# Altium integrated library NSC ADC.IntLib: 493 symbols (part 11 of 17)
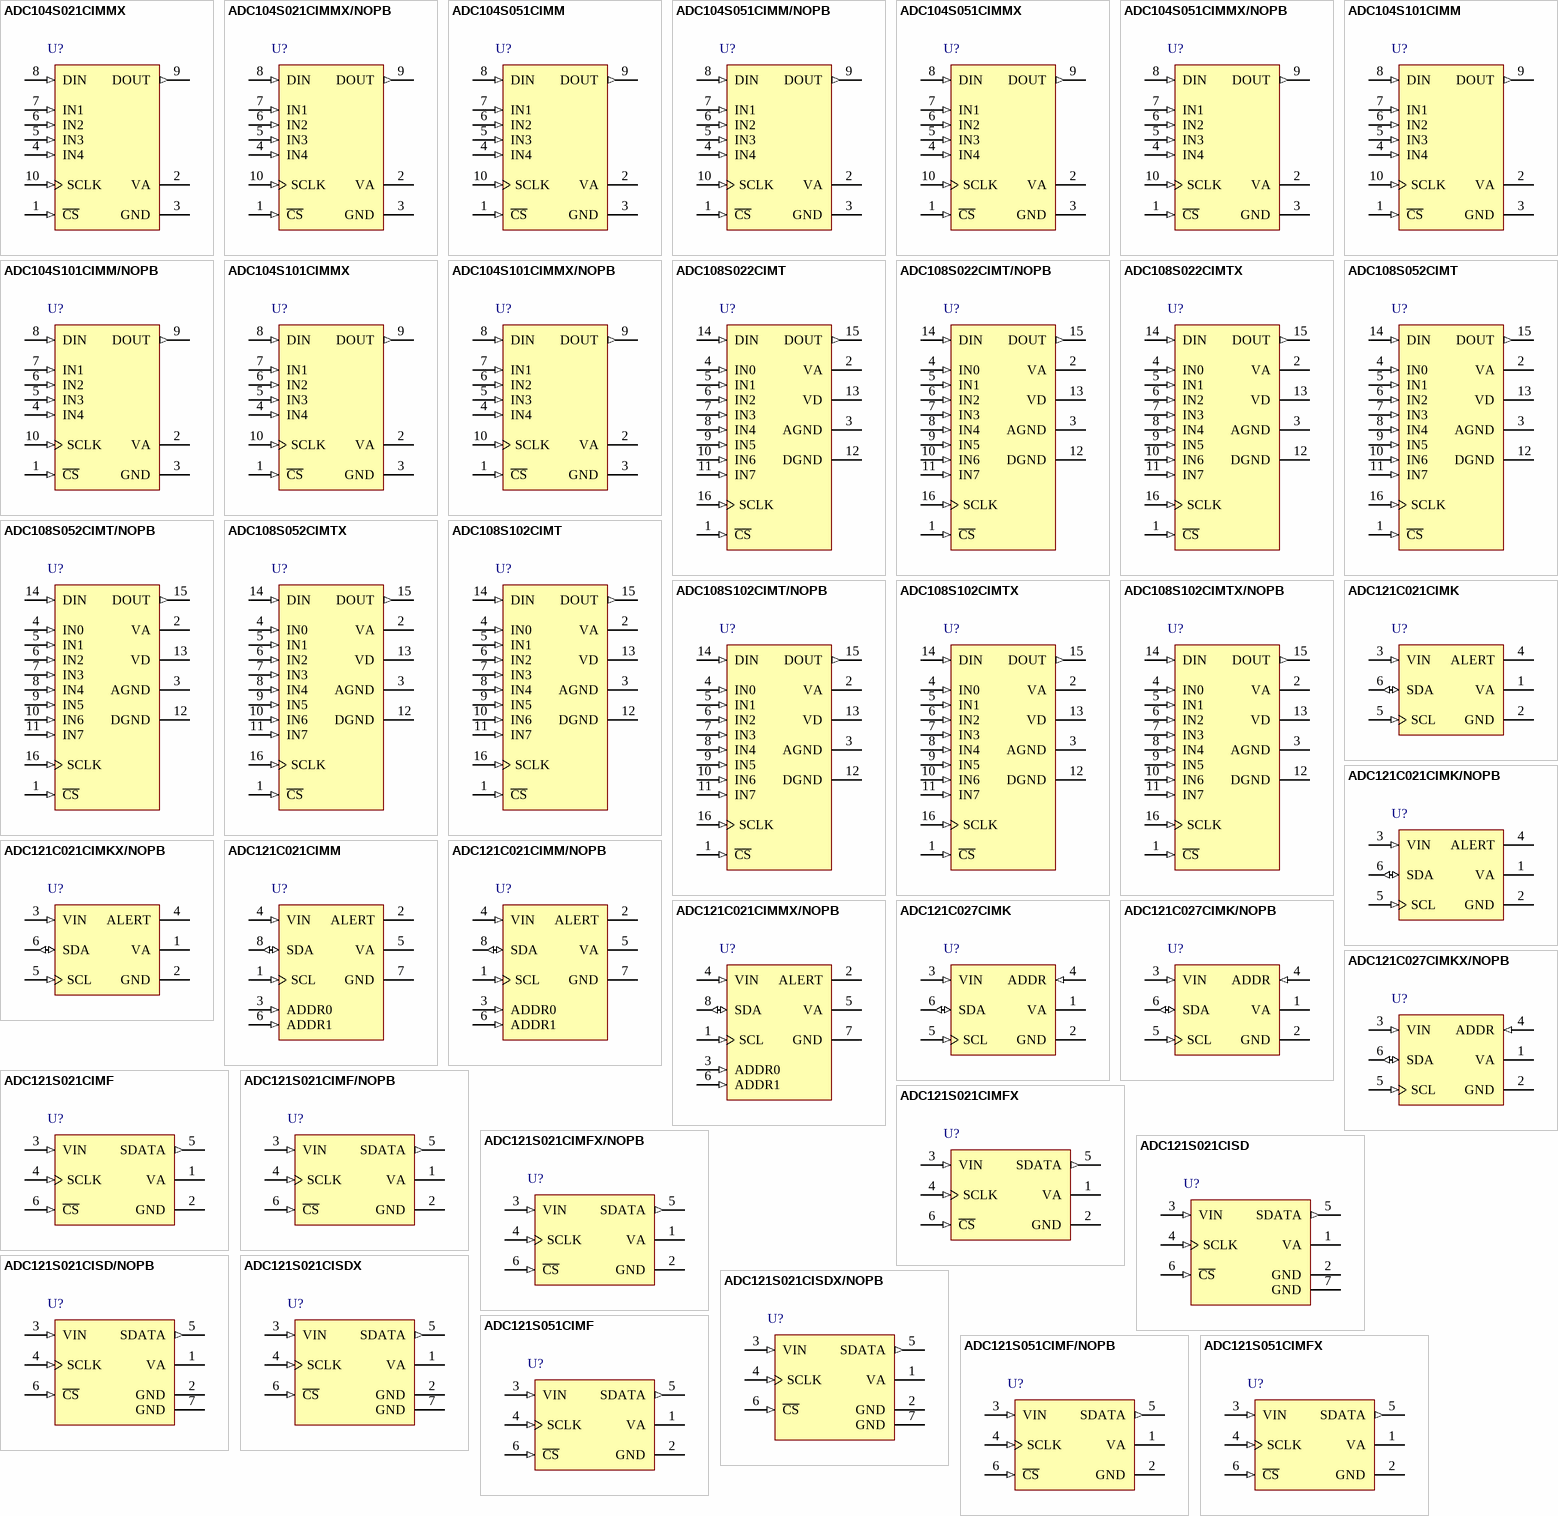
[diagram p46: symbols ADC104S021CIMMX to ADC121S051CIMFX]

## ADC121C021CIMKX/NOPB
designator U?
I2C-Compatible, 12-Bit Analog-to-Digital Converter with Alert Pin, 6-pin Tiny SOT23, Pb-Free; PartNumber: ADC121C021CIMKX/NOPB; Manufacturer: National Semiconductor; PackageTopMarking: X30C*XTT; PowerWise: Y; CompType: ADC IC; Published: 1-Mar-2010; DatasheetVersion: Jan-2008; PackageVersion: revE, Nov-2008; PackageReference: MK06A; Publisher: Altium Limited; PackageDescription: Molded TSOT, 2.97 x 1.65 x 0.87mm Body, 6 Lead, 0.95mm Pitch; Supplier 1: Digi-Key; Supplier Part Number 1: ADC121C021CIMKX-ND; RoHS: Y; PinCount: 6; Code_JEDEC: MO-193-AA; Code_IPC: SOT26A-6; ComponentLink1Description: ADC121C021 Datasheet; ComponentLink1URL: http://www.national.com/ds/AD/ADC121C021.pdf; ComponentLink2Description: ADC121C021 Web Page; ComponentLink2URL: http://www.national.com/pf/AD/ADC121C021.html; ComponentLink3Description: MK06A Package Page; ComponentLink3URL: http://www.national.com/packaging/folders/mk06a.html
footprint MK06A_N (SOT23, 6-Leads, Body 3.0x1.7mm, Pitch 0.95mm, Lead Span 2.9mm, IPC Medium Density)
footprint MK06A_L (SOT23, 6-Leads, Body 3.0x1.7mm, Pitch 0.95mm, Lead Span 2.9mm, IPC High Density)
footprint MK06A_M (SOT23, 6-Leads, Body 3.0x1.7mm, Pitch 0.95mm, Lead Span 2.9mm, IPC Low Density)
pins: 1 VA (power), 2 GND (power), 3 VIN (in), 4 ALERT (oc), 5 SCL (in), 6 SDA (io)

## ADC121C021CIMM
designator U?
I2C-Compatible, 12-Bit Analog-to-Digital Converter with Alert Pin, 8-pin Mini SOIC; PartNumber: ADC121C021CIMM; Manufacturer: National Semiconductor; PackageTopMarking: ZXTT*X37C; PowerWise: Y; CompType: ADC IC; Published: 29-May-2009; DatasheetVersion: Apr-2009; PackageVersion: revF, Apr-2008; PackageReference: MUA08A; Publisher: Altium Limited; PackageDescription: MINI SOIC, .118 x .118 x .034in, 8 Lead, .0256in Pitch; RoHS: Y; PinCount: 8; Code_JEDEC: MO-187-AA; ComponentLink1Description: ADC121C021 Datasheet; ComponentLink1URL: http://www.national.com/ds/AD/ADC121C021.pdf; ComponentLink2Description: ADC121C021 Web Page; ComponentLink2URL: http://www.national.com/pf/AD/ADC121C021.html; ComponentLink3Description: MUA08A Package Page; ComponentLink3URL: http://www.national.com/packaging/folders/mua08a.html
footprint MUA08A_N (TSOP, 8-Leads, Body 3x3mm, Pitch 0.65mm, IPC Medium Density)
footprint MUA08A_L (TSOP, 8-Leads, Body 3x3mm, Pitch 0.65mm, IPC High Density)
footprint MUA08A_M (TSOP, 8-Leads, Body 3x3mm, Pitch 0.65mm, IPC Low Density)
pins: 1 SCL (in), 2 ALERT (oc), 3 ADDR0 (in), 4 VIN (in), 5 VA (power), 6 ADDR1 (in), 7 GND (power), 8 SDA (io)

## ADC121C021CIMM/NOPB
designator U?
I2C-Compatible, 12-Bit Analog-to-Digital Converter with Alert Pin, 8-pin Mini SOIC, Pb-Free; PartNumber: ADC121C021CIMM/NOPB; Manufacturer: National Semiconductor; PackageTopMarking: ZXTT*X37C; PowerWise: Y; CompType: ADC IC; Published: 1-Mar-2010; DatasheetVersion: Apr-2009; PackageVersion: revF, Apr-2008; PackageReference: MUA08A; Publisher: Altium Limited; PackageDescription: MINI SOIC, .118 x .118 x .034in, 8 Lead, .0256in Pitch; Supplier 1: Digi-Key; Supplier Part Number 1: ADC121C021CIMMTR-ND; Supplier 2: Digi-Key; Supplier Part Number 2: ADC121C021CIMMCT-ND; Supplier 3: Digi-Key; Supplier Part Number 3: ADC121C021CIMMDKR-ND; Supplier 4: Farnell; Supplier Part Number 4: 1735789; RoHS: Y; PinCount: 8; Code_JEDEC: MO-187-AA; ComponentLink1Description: ADC121C021 Datasheet; ComponentLink1URL: http://www.national.com/ds/AD/ADC121C021.pdf; ComponentLink2Description: ADC121C021 Web Page; ComponentLink2URL: http://www.national.com/pf/AD/ADC121C021.html; ComponentLink3Description: MUA08A Package Page; ComponentLink3URL: http://www.national.com/packaging/folders/mua08a.html
footprint MUA08A_N (TSOP, 8-Leads, Body 3x3mm, Pitch 0.65mm, IPC Medium Density)
footprint MUA08A_L (TSOP, 8-Leads, Body 3x3mm, Pitch 0.65mm, IPC High Density)
footprint MUA08A_M (TSOP, 8-Leads, Body 3x3mm, Pitch 0.65mm, IPC Low Density)
pins: 1 SCL (in), 2 ALERT (oc), 3 ADDR0 (in), 4 VIN (in), 5 VA (power), 6 ADDR1 (in), 7 GND (power), 8 SDA (io)

## ADC121C021CIMMX/NOPB
designator U?
I2C-Compatible, 12-Bit Analog-to-Digital Converter with Alert Pin, 8-pin Mini SOIC, Pb-Free; PartNumber: ADC121C021CIMMX/NOPB; Manufacturer: National Semiconductor; PackageTopMarking: ZXTT*X37C; PowerWise: Y; CompType: ADC IC; Published: 1-Mar-2010; DatasheetVersion: Apr-2009; PackageVersion: revF, Apr-2008; PackageReference: MUA08A; Publisher: Altium Limited; PackageDescription: MINI SOIC, .118 x .118 x .034in, 8 Lead, .0256in Pitch; Supplier 1: Digi-Key; Supplier Part Number 1: ADC121C021CIMMX-ND; RoHS: Y; PinCount: 8; Code_JEDEC: MO-187-AA; ComponentLink1Description: ADC121C021 Datasheet; ComponentLink1URL: http://www.national.com/ds/AD/ADC121C021.pdf; ComponentLink2Description: ADC121C021 Web Page; ComponentLink2URL: http://www.national.com/pf/AD/ADC121C021.html; ComponentLink3Description: MUA08A Package Page; ComponentLink3URL: http://www.national.com/packaging/folders/mua08a.html
footprint MUA08A_N (TSOP, 8-Leads, Body 3x3mm, Pitch 0.65mm, IPC Medium Density)
footprint MUA08A_L (TSOP, 8-Leads, Body 3x3mm, Pitch 0.65mm, IPC High Density)
footprint MUA08A_M (TSOP, 8-Leads, Body 3x3mm, Pitch 0.65mm, IPC Low Density)
pins: 1 SCL (in), 2 ALERT (oc), 3 ADDR0 (in), 4 VIN (in), 5 VA (power), 6 ADDR1 (in), 7 GND (power), 8 SDA (io)

## ADC121C027CIMK
designator U?
I2C-Compatible, 12-Bit Analog-to-Digital Converter with Alert Function, 6-pin Tiny SOT23; PartNumber: ADC121C027CIMK; Manufacturer: National Semiconductor; PackageTopMarking: X31C*XTT; PowerWise: Y; CompType: ADC IC; Published: 29-May-2009; DatasheetVersion: Apr-2009; PackageVersion: revE, Nov-2008; PackageReference: MK06A; Publisher: Altium Limited; PackageDescription: Molded TSOT, 2.97 x 1.65 x 0.87mm Body, 6 Lead, 0.95mm Pitch; Supplier 1: Farnell; Supplier Part Number 1: 1552431; RoHS: N; PinCount: 6; Code_JEDEC: MO-193-AA; Code_IPC: SOT26A-6; ComponentLink1Description: ADC121C027 Datasheet; ComponentLink1URL: http://www.national.com/ds/AD/ADC121C027.pdf; ComponentLink2Description: ADC121C027 Web Page; ComponentLink2URL: http://www.national.com/pf/AD/ADC121C027.html; ComponentLink3Description: MK06A Package Page; ComponentLink3URL: http://www.national.com/packaging/folders/mk06a.html
footprint MK06A_N (SOT23, 6-Leads, Body 3.0x1.7mm, Pitch 0.95mm, Lead Span 2.9mm, IPC Medium Density)
footprint MK06A_L (SOT23, 6-Leads, Body 3.0x1.7mm, Pitch 0.95mm, Lead Span 2.9mm, IPC High Density)
footprint MK06A_M (SOT23, 6-Leads, Body 3.0x1.7mm, Pitch 0.95mm, Lead Span 2.9mm, IPC Low Density)
pins: 1 VA (power), 2 GND (power), 3 VIN (in), 4 ADDR (in), 5 SCL (in), 6 SDA (io)

## ADC121C027CIMK/NOPB
designator U?
I2C-Compatible, 12-Bit Analog-to-Digital Converter with Alert Function, 6-pin Tiny SOT23, Pb-Free; PartNumber: ADC121C027CIMK/NOPB; Manufacturer: National Semiconductor; PackageTopMarking: X31C*XTT; PowerWise: Y; CompType: ADC IC; Published: 1-Mar-2010; DatasheetVersion: Apr-2009; PackageVersion: revE, Nov-2008; PackageReference: MK06A; Publisher: Altium Limited; PackageDescription: Molded TSOT, 2.97 x 1.65 x 0.87mm Body, 6 Lead, 0.95mm Pitch; Supplier 1: Digi-Key; Supplier Part Number 1: ADC121C027CIMKTR-ND; Supplier 2: Digi-Key; Supplier Part Number 2: ADC121C027CIMKCT-ND; Supplier 3: Digi-Key; Supplier Part Number 3: ADC121C027CIMKDKR-ND; Supplier 4: Farnell; Supplier Part Number 4: 1555087; RoHS: Y; PinCount: 6; Code_JEDEC: MO-193-AA; Code_IPC: SOT26A-6; ComponentLink1Description: ADC121C027 Datasheet; ComponentLink1URL: http://www.national.com/ds/AD/ADC121C027.pdf; ComponentLink2Description: ADC121C027 Web Page; ComponentLink2URL: http://www.national.com/pf/AD/ADC121C027.html; ComponentLink3Description: MK06A Package Page; ComponentLink3URL: http://www.national.com/packaging/folders/mk06a.html
footprint MK06A_N (SOT23, 6-Leads, Body 3.0x1.7mm, Pitch 0.95mm, Lead Span 2.9mm, IPC Medium Density)
footprint MK06A_L (SOT23, 6-Leads, Body 3.0x1.7mm, Pitch 0.95mm, Lead Span 2.9mm, IPC High Density)
footprint MK06A_M (SOT23, 6-Leads, Body 3.0x1.7mm, Pitch 0.95mm, Lead Span 2.9mm, IPC Low Density)
pins: 1 VA (power), 2 GND (power), 3 VIN (in), 4 ADDR (in), 5 SCL (in), 6 SDA (io)

## ADC121C027CIMKX/NOPB
designator U?
I2C-Compatible, 12-Bit Analog-to-Digital Converter with Alert Function, 6-pin Tiny SOT23, Pb-Free; PartNumber: ADC121C027CIMKX/NOPB; Manufacturer: National Semiconductor; PackageTopMarking: X31C*XTT; PowerWise: Y; CompType: ADC IC; Published: 1-Mar-2010; DatasheetVersion: Apr-2009; PackageVersion: revE, Nov-2008; PackageReference: MK06A; Publisher: Altium Limited; PackageDescription: Molded TSOT, 2.97 x 1.65 x 0.87mm Body, 6 Lead, 0.95mm Pitch; Supplier 1: Digi-Key; Supplier Part Number 1: ADC121C027CIMKX-ND; RoHS: Y; PinCount: 6; Code_JEDEC: MO-193-AA; Code_IPC: SOT26A-6; ComponentLink1Description: ADC121C027 Datasheet; ComponentLink1URL: http://www.national.com/ds/AD/ADC121C027.pdf; ComponentLink2Description: ADC121C027 Web Page; ComponentLink2URL: http://www.national.com/pf/AD/ADC121C027.html; ComponentLink3Description: MK06A Package Page; ComponentLink3URL: http://www.national.com/packaging/folders/mk06a.html
footprint MK06A_N (SOT23, 6-Leads, Body 3.0x1.7mm, Pitch 0.95mm, Lead Span 2.9mm, IPC Medium Density)
footprint MK06A_L (SOT23, 6-Leads, Body 3.0x1.7mm, Pitch 0.95mm, Lead Span 2.9mm, IPC High Density)
footprint MK06A_M (SOT23, 6-Leads, Body 3.0x1.7mm, Pitch 0.95mm, Lead Span 2.9mm, IPC Low Density)
pins: 1 VA (power), 2 GND (power), 3 VIN (in), 4 ADDR (in), 5 SCL (in), 6 SDA (io)

## ADC121S021CIMF
designator U?
Single Channel, 50 to 200 kSPS, 12-Bit A/D Converter, 6-pin SOT-23; PartNumber: ADC121S021CIMF; Manufacturer: National Semiconductor; PackageTopMarking: X07C*XTT; PowerWise: Y; CompType: ADC IC; Published: 4-Dec-2008; DatasheetVersion: Jan-2010; PackageVersion: revC, Sep-2005; PackageReference: MF06A; Publisher: Altium Limited; PackageDescription: Molded SOT-23, .115 x .063 x .040in Body, 6 Lead, .0375in in Pitch; Supplier 1: Farnell; Supplier Part Number 1: 1250025; RoHS: N; PinCount: 6; Code_JEDEC: MO-178-AB; Code_IPC: SOT26A-6; ComponentLink1Description: ADC121S021 Datasheet; ComponentLink1URL: http://www.national.com/ds/AD/ADC121S021.pdf; ComponentLink2Description: ADC121S021 Web Page; ComponentLink2URL: http://www.national.com/pf/AD/ADC121S021.html; ComponentLink3Description: MF06A Package Page; ComponentLink3URL: http://www.national.com/packaging/folders/mf06a.html
footprint MF06A_N (SOT23, 6-Leads, Body 2.9x1.6mm, Pitch 0.95mm, Lead Span 2.8mm, IPC Medium Density)
footprint MF06A_L (SOT23, 6-Leads, Body 2.9x1.6mm, Pitch 0.95mm, Lead Span 2.8mm, IPC High Density)
footprint MF06A_M (SOT23, 6-Leads, Body 2.9x1.6mm, Pitch 0.95mm, Lead Span 2.8mm, IPC Low Density)
pins: 1 VA (power), 2 GND (power), 3 VIN (in), 4 SCLK (in), 5 SDATA (out), 6 ~{CS} (in)

## ADC121S021CIMF/NOPB
designator U?
Single Channel, 50 to 200 kSPS, 12-Bit A/D Converter, 6-pin SOT-23, Pb-Free; PartNumber: ADC121S021CIMF/NOPB; Manufacturer: National Semiconductor; PackageTopMarking: X07C*XTT; PowerWise: Y; CompType: ADC IC; Published: 1-Mar-2010; DatasheetVersion: Jan-2010; PackageVersion: revC, Sep-2005; PackageReference: MF06A; Publisher: Altium Limited; PackageDescription: Molded SOT-23, .115 x .063 x .040in Body, 6 Lead, .0375in in Pitch; Supplier 1: Digi-Key; Supplier Part Number 1: ADC121S021CIMFTR-ND; Supplier 2: Digi-Key; Supplier Part Number 2: ADC121S021CIMFCT-ND; Supplier 3: Digi-Key; Supplier Part Number 3: ADC121S021CIMFDKR-ND; Supplier 4: Farnell; Supplier Part Number 4: 1511045; RoHS: Y; PinCount: 6; Code_JEDEC: MO-178-AB; Code_IPC: SOT26A-6; ComponentLink1Description: ADC121S021 Datasheet; ComponentLink1URL: http://www.national.com/ds/AD/ADC121S021.pdf; ComponentLink2Description: ADC121S021 Web Page; ComponentLink2URL: http://www.national.com/pf/AD/ADC121S021.html; ComponentLink3Description: MF06A Package Page; ComponentLink3URL: http://www.national.com/packaging/folders/mf06a.html
footprint MF06A_N (SOT23, 6-Leads, Body 2.9x1.6mm, Pitch 0.95mm, Lead Span 2.8mm, IPC Medium Density)
footprint MF06A_L (SOT23, 6-Leads, Body 2.9x1.6mm, Pitch 0.95mm, Lead Span 2.8mm, IPC High Density)
footprint MF06A_M (SOT23, 6-Leads, Body 2.9x1.6mm, Pitch 0.95mm, Lead Span 2.8mm, IPC Low Density)
pins: 1 VA (power), 2 GND (power), 3 VIN (in), 4 SCLK (in), 5 SDATA (out), 6 ~{CS} (in)

## ADC121S021CIMFX
designator U?
Single Channel, 50 to 200 kSPS, 12-Bit A/D Converter, 6-pin SOT-23; PartNumber: ADC121S021CIMFX; Manufacturer: National Semiconductor; PackageTopMarking: X07C*XTT; PowerWise: Y; CompType: ADC IC; Published: 1-Mar-2010; DatasheetVersion: Jan-2010; PackageVersion: revC, Sep-2005; PackageReference: MF06A; Publisher: Altium Limited; PackageDescription: Molded SOT-23, .115 x .063 x .040in Body, 6 Lead, .0375in in Pitch; RoHS: N; PinCount: 6; Code_JEDEC: MO-178-AB; Code_IPC: SOT26A-6; ComponentLink1Description: ADC121S021 Datasheet; ComponentLink1URL: http://www.national.com/ds/AD/ADC121S021.pdf; ComponentLink2Description: ADC121S021 Web Page; ComponentLink2URL: http://www.national.com/pf/AD/ADC121S021.html; ComponentLink3Description: MF06A Package Page; ComponentLink3URL: http://www.national.com/packaging/folders/mf06a.html
footprint MF06A_N (SOT23, 6-Leads, Body 2.9x1.6mm, Pitch 0.95mm, Lead Span 2.8mm, IPC Medium Density)
footprint MF06A_L (SOT23, 6-Leads, Body 2.9x1.6mm, Pitch 0.95mm, Lead Span 2.8mm, IPC High Density)
footprint MF06A_M (SOT23, 6-Leads, Body 2.9x1.6mm, Pitch 0.95mm, Lead Span 2.8mm, IPC Low Density)
pins: 1 VA (power), 2 GND (power), 3 VIN (in), 4 SCLK (in), 5 SDATA (out), 6 ~{CS} (in)

## ADC121S021CIMFX/NOPB
designator U?
Single Channel, 50 to 200 kSPS, 12-Bit A/D Converter, 6-pin SOT-23, Pb-Free; PartNumber: ADC121S021CIMFX/NOPB; Manufacturer: National Semiconductor; PackageTopMarking: X07C*XTT; PowerWise: Y; CompType: ADC IC; Published: 1-Mar-2010; DatasheetVersion: Jan-2010; PackageVersion: revC, Sep-2005; PackageReference: MF06A; Publisher: Altium Limited; PackageDescription: Molded SOT-23, .115 x .063 x .040in Body, 6 Lead, .0375in in Pitch; Supplier 1: Digi-Key; Supplier Part Number 1: ADC121S021CIMFX-ND; RoHS: Y; PinCount: 6; Code_JEDEC: MO-178-AB; Code_IPC: SOT26A-6; ComponentLink1Description: ADC121S021 Datasheet; ComponentLink1URL: http://www.national.com/ds/AD/ADC121S021.pdf; ComponentLink2Description: ADC121S021 Web Page; ComponentLink2URL: http://www.national.com/pf/AD/ADC121S021.html; ComponentLink3Description: MF06A Package Page; ComponentLink3URL: http://www.national.com/packaging/folders/mf06a.html
footprint MF06A_N (SOT23, 6-Leads, Body 2.9x1.6mm, Pitch 0.95mm, Lead Span 2.8mm, IPC Medium Density)
footprint MF06A_L (SOT23, 6-Leads, Body 2.9x1.6mm, Pitch 0.95mm, Lead Span 2.8mm, IPC High Density)
footprint MF06A_M (SOT23, 6-Leads, Body 2.9x1.6mm, Pitch 0.95mm, Lead Span 2.8mm, IPC Low Density)
pins: 1 VA (power), 2 GND (power), 3 VIN (in), 4 SCLK (in), 5 SDATA (out), 6 ~{CS} (in)

## ADC121S021CISD
designator U?
Single Channel, 50 to 200 kSPS, 12-Bit A/D Converter, 7-pin LLP; PartNumber: ADC121S021CISD; Manufacturer: National Semiconductor; PackageTopMarking: XTT*X7C; PowerWise: Y; CompType: ADC IC; Published: 4-Dec-2008; DatasheetVersion: Jan-2010; PackageVersion: revA, Nov-2003; PackageReference: SDB06A; Publisher: Altium Limited; PackageDescription: LLP, Plastic, Dual, 2.2 x 2.5 x 0.8mm Body, 6 Lead, 0.65mm Pitch, No Pullback; Supplier 1: Farnell; Supplier Part Number 1: 1312531; RoHS: N; PinCount: 6; ComponentLink1Description: ADC121S021 Datasheet; ComponentLink1URL: http://www.national.com/ds/AD/ADC121S021.pdf; ComponentLink2Description: ADC121S021 Web Page; ComponentLink2URL: http://www.national.com/pf/AD/ADC121S021.html; ComponentLink3Description: SDB06A Package Page; ComponentLink3URL: http://www.national.com/packaging/folders/sdb06a.html
footprint SDB06A (SON, 6-Leads, Body 2.2x2.5mm, Pitch 0.65mm, NSC Recommended (SC-70 Land))
pins: 1 VA (power), 2 GND (power), 3 VIN (in), 4 SCLK (in), 5 SDATA (out), 6 ~{CS} (in), 7 GND (power)

## ADC121S021CISD/NOPB
designator U?
Single Channel, 50 to 200 kSPS, 12-Bit A/D Converter, 6-pin LLP, Pb-Free; PartNumber: ADC121S021CISD/NOPB; Manufacturer: National Semiconductor; PackageTopMarking: XTT*X7C; PowerWise: Y; CompType: ADC IC; Published: 1-Mar-2010; DatasheetVersion: Jan-2010; PackageVersion: revA, Nov-2003; PackageReference: SDB06A; Publisher: Altium Limited; PackageDescription: LLP, Plastic, Dual, 2.2 x 2.5 x 0.8mm Body, 6 Lead, 0.65mm Pitch, No Pullback; Supplier 1: Digi-Key; Supplier Part Number 1: ADC121S021CISDTR-ND; Supplier 2: Digi-Key; Supplier Part Number 2: ADC121S021CISDCT-ND; Supplier 3: Digi-Key; Supplier Part Number 3: ADC121S021CISDDKR-ND; RoHS: Y; PinCount: 6; ComponentLink1Description: ADC121S021 Datasheet; ComponentLink1URL: http://www.national.com/ds/AD/ADC121S021.pdf; ComponentLink2Description: ADC121S021 Web Page; ComponentLink2URL: http://www.national.com/pf/AD/ADC121S021.html; ComponentLink3Description: SDB06A Package Page; ComponentLink3URL: http://www.national.com/packaging/folders/sdb06a.html
footprint SDB06A (SON, 6-Leads, Body 2.2x2.5mm, Pitch 0.65mm, NSC Recommended (SC-70 Land))
pins: 1 VA (power), 2 GND (power), 3 VIN (in), 4 SCLK (in), 5 SDATA (out), 6 ~{CS} (in), 7 GND (power)

## ADC121S021CISDX
designator U?
Single Channel, 50 to 200 kSPS, 12-Bit A/D Converter, 6-pin LLP; PartNumber: ADC121S021CISDX; Manufacturer: National Semiconductor; PackageTopMarking: XTT*X7C; PowerWise: Y; CompType: ADC IC; Published: 1-Mar-2010; DatasheetVersion: Jan-2010; PackageVersion: revA, Nov-2003; PackageReference: SDB06A; Publisher: Altium Limited; PackageDescription: LLP, Plastic, Dual, 2.2 x 2.5 x 0.8mm Body, 6 Lead, 0.65mm Pitch, No Pullback; RoHS: N; PinCount: 6; ComponentLink1Description: ADC121S021 Datasheet; ComponentLink1URL: http://www.national.com/ds/AD/ADC121S021.pdf; ComponentLink2Description: ADC121S021 Web Page; ComponentLink2URL: http://www.national.com/pf/AD/ADC121S021.html; ComponentLink3Description: SDB06A Package Page; ComponentLink3URL: http://www.national.com/packaging/folders/sdb06a.html
footprint SDB06A (SON, 6-Leads, Body 2.2x2.5mm, Pitch 0.65mm, NSC Recommended (SC-70 Land))
pins: 1 VA (power), 2 GND (power), 3 VIN (in), 4 SCLK (in), 5 SDATA (out), 6 ~{CS} (in), 7 GND (power)

## ADC121S021CISDX/NOPB
designator U?
Single Channel, 50 to 200 kSPS, 12-Bit A/D Converter, 6-pin LLP, Pb-Free; PartNumber: ADC121S021CISDX/NOPB; Manufacturer: National Semiconductor; PackageTopMarking: XTT*X7C; PowerWise: Y; CompType: ADC IC; Published: 1-Mar-2010; DatasheetVersion: Jan-2010; PackageVersion: revA, Nov-2003; PackageReference: SDB06A; Publisher: Altium Limited; PackageDescription: LLP, Plastic, Dual, 2.2 x 2.5 x 0.8mm Body, 6 Lead, 0.65mm Pitch, No Pullback; Supplier 1: Digi-Key; Supplier Part Number 1: ADC121S021CISDX-ND; RoHS: Y; PinCount: 6; ComponentLink1Description: ADC121S021 Datasheet; ComponentLink1URL: http://www.national.com/ds/AD/ADC121S021.pdf; ComponentLink2Description: ADC121S021 Web Page; ComponentLink2URL: http://www.national.com/pf/AD/ADC121S021.html; ComponentLink3Description: SDB06A Package Page; ComponentLink3URL: http://www.national.com/packaging/folders/sdb06a.html
footprint SDB06A (SON, 6-Leads, Body 2.2x2.5mm, Pitch 0.65mm, NSC Recommended (SC-70 Land))
pins: 1 VA (power), 2 GND (power), 3 VIN (in), 4 SCLK (in), 5 SDATA (out), 6 ~{CS} (in), 7 GND (power)

## ADC121S051CIMF
designator U?
Single Channel, 200 to 500 kSPS, 12-Bit A/D Converter, 6-pin SOT-23; PartNumber: ADC121S051CIMF; Manufacturer: National Semiconductor; PackageTopMarking: X13C*XTT; PowerWise: Y; CompType: ADC IC; Published: 4-Dec-2008; DatasheetVersion: Jan-2010; PackageVersion: revC, Sep-2005; PackageReference: MF06A; Publisher: Altium Limited; PackageDescription: Molded SOT-23, .115 x .063 x .040in Body, 6 Lead, .0375in in Pitch; Supplier 1: Farnell; Supplier Part Number 1: 1250027; RoHS: N; PinCount: 6; Code_JEDEC: MO-178-AB; Code_IPC: SOT26A-6; ComponentLink1Description: ADC121S051 Datasheet; ComponentLink1URL: http://www.national.com/ds/AD/ADC121S051.pdf; ComponentLink2Description: ADC121S051 Web Page; ComponentLink2URL: http://www.national.com/pf/AD/ADC121S051.html; ComponentLink3Description: MF06A Package Page; ComponentLink3URL: http://www.national.com/packaging/folders/mf06a.html
footprint MF06A_N (SOT23, 6-Leads, Body 2.9x1.6mm, Pitch 0.95mm, Lead Span 2.8mm, IPC Medium Density)
footprint MF06A_L (SOT23, 6-Leads, Body 2.9x1.6mm, Pitch 0.95mm, Lead Span 2.8mm, IPC High Density)
footprint MF06A_M (SOT23, 6-Leads, Body 2.9x1.6mm, Pitch 0.95mm, Lead Span 2.8mm, IPC Low Density)
pins: 1 VA (power), 2 GND (power), 3 VIN (in), 4 SCLK (in), 5 SDATA (out), 6 ~{CS} (in)

## ADC121S051CIMF/NOPB
designator U?
Single Channel, 200 to 500 kSPS, 12-Bit A/D Converter, 6-pin SOT-23, Pb-Free; PartNumber: ADC121S051CIMF/NOPB; Manufacturer: National Semiconductor; PackageTopMarking: X13C*XTT; PowerWise: Y; CompType: ADC IC; Published: 1-Mar-2010; DatasheetVersion: Jan-2010; PackageVersion: revC, Sep-2005; PackageReference: MF06A; Publisher: Altium Limited; PackageDescription: Molded SOT-23, .115 x .063 x .040in Body, 6 Lead, .0375in in Pitch; Supplier 1: Digi-Key; Supplier Part Number 1: ADC121S051CIMFTR-ND; Supplier 2: Digi-Key; Supplier Part Number 2: ADC121S051CIMFCT-ND; Supplier 3: Digi-Key; Supplier Part Number 3: ADC121S051CIMFDKR-ND; RoHS: Y; PinCount: 6; Code_JEDEC: MO-178-AB; Code_IPC: SOT26A-6; ComponentLink1Description: ADC121S051 Datasheet; ComponentLink1URL: http://www.national.com/ds/AD/ADC121S051.pdf; ComponentLink2Description: ADC121S051 Web Page; ComponentLink2URL: http://www.national.com/pf/AD/ADC121S051.html; ComponentLink3Description: MF06A Package Page; ComponentLink3URL: http://www.national.com/packaging/folders/mf06a.html
footprint MF06A_N (SOT23, 6-Leads, Body 2.9x1.6mm, Pitch 0.95mm, Lead Span 2.8mm, IPC Medium Density)
footprint MF06A_L (SOT23, 6-Leads, Body 2.9x1.6mm, Pitch 0.95mm, Lead Span 2.8mm, IPC High Density)
footprint MF06A_M (SOT23, 6-Leads, Body 2.9x1.6mm, Pitch 0.95mm, Lead Span 2.8mm, IPC Low Density)
pins: 1 VA (power), 2 GND (power), 3 VIN (in), 4 SCLK (in), 5 SDATA (out), 6 ~{CS} (in)

## ADC121S051CIMFX
designator U?
Single Channel, 200 to 500 kSPS, 12-Bit A/D Converter, 6-pin SOT-23; PartNumber: ADC121S051CIMFX; Manufacturer: National Semiconductor; PackageTopMarking: X13C*XTT; PowerWise: Y; CompType: ADC IC; Published: 1-Mar-2010; DatasheetVersion: Jan-2010; PackageVersion: revC, Sep-2005; PackageReference: MF06A; Publisher: Altium Limited; PackageDescription: Molded SOT-23, .115 x .063 x .040in Body, 6 Lead, .0375in in Pitch; RoHS: N; PinCount: 6; Code_JEDEC: MO-178-AB; Code_IPC: SOT26A-6; ComponentLink1Description: ADC121S051 Datasheet; ComponentLink1URL: http://www.national.com/ds/AD/ADC121S051.pdf; ComponentLink2Description: ADC121S051 Web Page; ComponentLink2URL: http://www.national.com/pf/AD/ADC121S051.html; ComponentLink3Description: MF06A Package Page; ComponentLink3URL: http://www.national.com/packaging/folders/mf06a.html
footprint MF06A_N (SOT23, 6-Leads, Body 2.9x1.6mm, Pitch 0.95mm, Lead Span 2.8mm, IPC Medium Density)
footprint MF06A_L (SOT23, 6-Leads, Body 2.9x1.6mm, Pitch 0.95mm, Lead Span 2.8mm, IPC High Density)
footprint MF06A_M (SOT23, 6-Leads, Body 2.9x1.6mm, Pitch 0.95mm, Lead Span 2.8mm, IPC Low Density)
pins: 1 VA (power), 2 GND (power), 3 VIN (in), 4 SCLK (in), 5 SDATA (out), 6 ~{CS} (in)

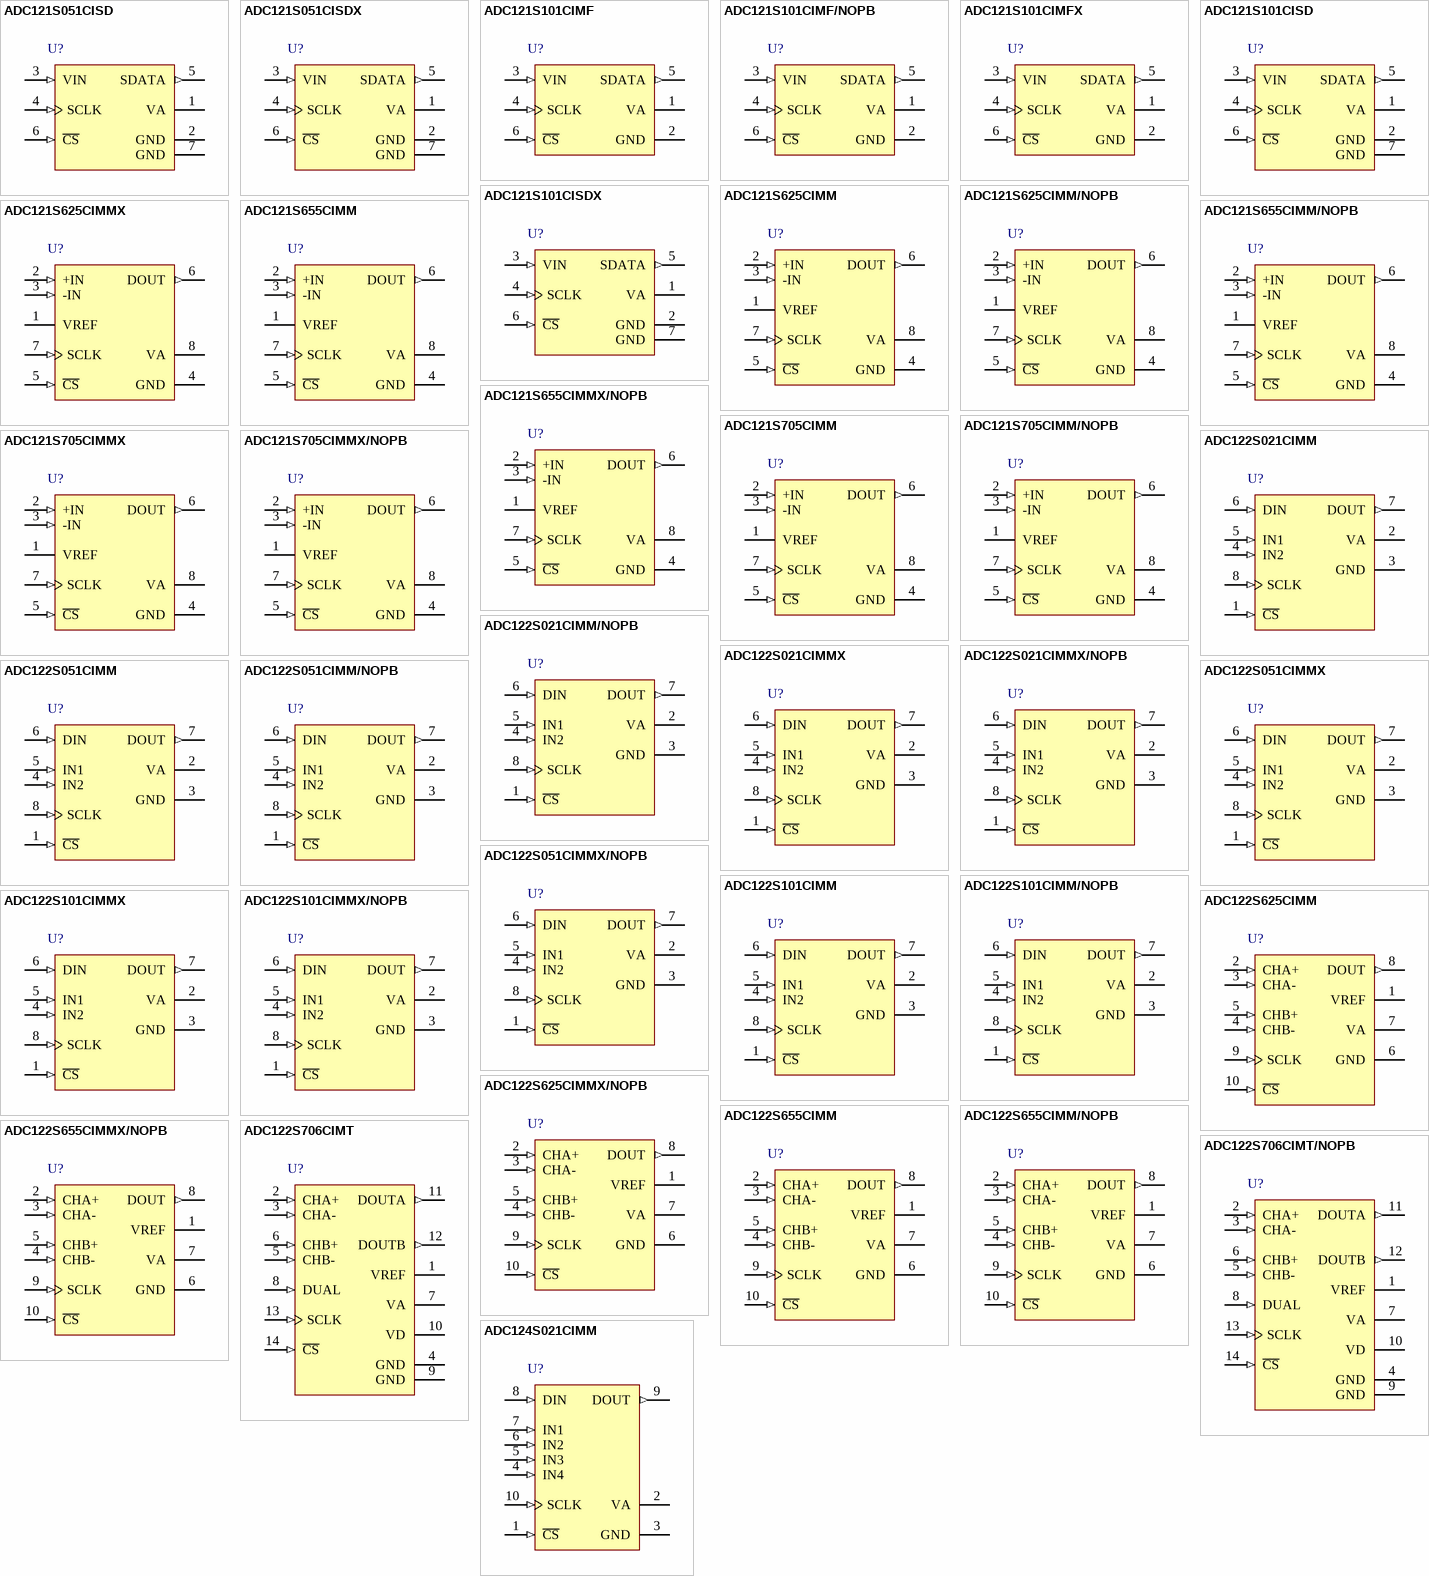
[diagram p26: symbols ADC121S051CISD to ADC124S021CIMM]

## ADC121S051CISD
designator U?
Single Channel, 200 to 500 kSPS, 12-Bit A/D Converter, 7-pin LLP; PartNumber: ADC121S051CISD; Manufacturer: National Semiconductor; PackageTopMarking: XTT*X4C; PowerWise: Y; CompType: ADC IC; Published: 4-Dec-2008; DatasheetVersion: Jan-2010; PackageVersion: revA, Nov-2003; PackageReference: SDB06A; Publisher: Altium Limited; PackageDescription: LLP, Plastic, Dual, 2.2 x 2.5 x 0.8mm Body, 6 Lead, 0.65mm Pitch, No Pullback; Supplier 1: Farnell; Supplier Part Number 1: 1312532; RoHS: Y; PinCount: 6; ComponentLink1Description: ADC121S051 Datasheet; ComponentLink1URL: http://www.national.com/ds/AD/ADC121S051.pdf; ComponentLink2Description: ADC121S051 Web Page; ComponentLink2URL: http://www.national.com/pf/AD/ADC121S051.html; ComponentLink3Description: SDB06A Package Page; ComponentLink3URL: http://www.national.com/packaging/folders/sdb06a.html
footprint SDB06A (SON, 6-Leads, Body 2.2x2.5mm, Pitch 0.65mm, NSC Recommended (SC-70 Land))
pins: 1 VA (power), 2 GND (power), 3 VIN (in), 4 SCLK (in), 5 SDATA (out), 6 ~{CS} (in), 7 GND (power)

## ADC121S051CISDX
designator U?
Single Channel, 200 to 500 kSPS, 12-Bit A/D Converter, 6-pin LLP; PartNumber: ADC121S051CISDX; Manufacturer: National Semiconductor; PackageTopMarking: XTT*X4C; PowerWise: Y; CompType: ADC IC; Published: 1-Mar-2010; DatasheetVersion: Jan-2010; PackageVersion: revA, Nov-2003; PackageReference: SDB06A; Publisher: Altium Limited; PackageDescription: LLP, Plastic, Dual, 2.2 x 2.5 x 0.8mm Body, 6 Lead, 0.65mm Pitch, No Pullback; RoHS: N; PinCount: 6; ComponentLink1Description: ADC121S051 Datasheet; ComponentLink1URL: http://www.national.com/ds/AD/ADC121S051.pdf; ComponentLink2Description: ADC121S051 Web Page; ComponentLink2URL: http://www.national.com/pf/AD/ADC121S051.html; ComponentLink3Description: SDB06A Package Page; ComponentLink3URL: http://www.national.com/packaging/folders/sdb06a.html
footprint SDB06A (SON, 6-Leads, Body 2.2x2.5mm, Pitch 0.65mm, NSC Recommended (SC-70 Land))
pins: 1 VA (power), 2 GND (power), 3 VIN (in), 4 SCLK (in), 5 SDATA (out), 6 ~{CS} (in), 7 GND (power)

## ADC121S101CIMF
designator U?
1MSPS, 12-Bit A/D Converter, 6-pin SOT-23; PartNumber: ADC121S101CIMF; Manufacturer: National Semiconductor; PackageTopMarking: X01C*XTT; PowerWise: Y; CompType: ADC IC; Published: 4-Dec-2008; DatasheetVersion: Jun-2004; PackageVersion: revC, Sep-2005; PackageReference: MF06A; Publisher: Altium Limited; PackageDescription: Molded SOT-23, .115 x .063 x .040in Body, 6 Lead, .0375in in Pitch; Supplier 1: Farnell; Supplier Part Number 1: 1007992; RoHS: N; PinCount: 6; Code_JEDEC: MO-178-AB; Code_IPC: SOT26A-6; ComponentLink1Description: ADC121S101 Datasheet; ComponentLink1URL: http://www.national.com/ds/AD/ADC121S101.pdf; ComponentLink2Description: ADC121S101 Web Page; ComponentLink2URL: http://www.national.com/pf/AD/ADC121S101.html; ComponentLink3Description: MF06A Package Page; ComponentLink3URL: http://www.national.com/packaging/folders/mf06a.html
footprint MF06A_N (SOT23, 6-Leads, Body 2.9x1.6mm, Pitch 0.95mm, Lead Span 2.8mm, IPC Medium Density)
footprint MF06A_L (SOT23, 6-Leads, Body 2.9x1.6mm, Pitch 0.95mm, Lead Span 2.8mm, IPC High Density)
footprint MF06A_M (SOT23, 6-Leads, Body 2.9x1.6mm, Pitch 0.95mm, Lead Span 2.8mm, IPC Low Density)
pins: 1 VA (power), 2 GND (power), 3 VIN (in), 4 SCLK (in), 5 SDATA (out), 6 ~{CS} (in)

## ADC121S101CIMF/NOPB
designator U?
Single Channel, 0.5 to 1 MSPS, 12-Bit A/D Converter, 6-pin SOT-23, Pb-Free; PartNumber: ADC121S101CIMF/NOPB; Manufacturer: National Semiconductor; PackageTopMarking: X01C*XTT; PowerWise: Y; CompType: ADC IC; Published: 1-Mar-2010; DatasheetVersion: Jun-2004; PackageVersion: revC, Sep-2005; PackageReference: MF06A; Publisher: Altium Limited; PackageDescription: Molded SOT-23, .115 x .063 x .040in Body, 6 Lead, .0375in in Pitch; Supplier 1: Digi-Key; Supplier Part Number 1: ADC121S101CIMFTR-ND; Supplier 2: Digi-Key; Supplier Part Number 2: ADC121S101CIMFCT-ND; Supplier 3: Digi-Key; Supplier Part Number 3: ADC121S101CIMFDKR-ND; Supplier 4: Farnell; Supplier Part Number 4: 1468863; RoHS: Y; PinCount: 6; Code_JEDEC: MO-178-AB; Code_IPC: SOT26A-6; ComponentLink1Description: ADC121S101 Datasheet; ComponentLink1URL: http://www.national.com/ds/AD/ADC121S101.pdf; ComponentLink2Description: ADC121S101 Web Page; ComponentLink2URL: http://www.national.com/pf/AD/ADC121S101.html; ComponentLink3Description: MF06A Package Page; ComponentLink3URL: http://www.national.com/packaging/folders/mf06a.html
footprint MF06A_N (SOT23, 6-Leads, Body 2.9x1.6mm, Pitch 0.95mm, Lead Span 2.8mm, IPC Medium Density)
footprint MF06A_L (SOT23, 6-Leads, Body 2.9x1.6mm, Pitch 0.95mm, Lead Span 2.8mm, IPC High Density)
footprint MF06A_M (SOT23, 6-Leads, Body 2.9x1.6mm, Pitch 0.95mm, Lead Span 2.8mm, IPC Low Density)
pins: 1 VA (power), 2 GND (power), 3 VIN (in), 4 SCLK (in), 5 SDATA (out), 6 ~{CS} (in)

## ADC121S101CIMFX
designator U?
Single Channel, 0.5 to 1 MSPS, 12-Bit A/D Converter, 6-pin SOT-23; PartNumber: ADC121S101CIMFX; Manufacturer: National Semiconductor; PackageTopMarking: X01C*XTT; PowerWise: Y; CompType: ADC IC; Published: 1-Mar-2010; DatasheetVersion: Jun-2004; PackageVersion: revC, Sep-2005; PackageReference: MF06A; Publisher: Altium Limited; PackageDescription: Molded SOT-23, .115 x .063 x .040in Body, 6 Lead, .0375in in Pitch; RoHS: N; PinCount: 6; Code_JEDEC: MO-178-AB; Code_IPC: SOT26A-6; ComponentLink1Description: ADC121S101 Datasheet; ComponentLink1URL: http://www.national.com/ds/AD/ADC121S101.pdf; ComponentLink2Description: ADC121S101 Web Page; ComponentLink2URL: http://www.national.com/pf/AD/ADC121S101.html; ComponentLink3Description: MF06A Package Page; ComponentLink3URL: http://www.national.com/packaging/folders/mf06a.html
footprint MF06A_N (SOT23, 6-Leads, Body 2.9x1.6mm, Pitch 0.95mm, Lead Span 2.8mm, IPC Medium Density)
footprint MF06A_L (SOT23, 6-Leads, Body 2.9x1.6mm, Pitch 0.95mm, Lead Span 2.8mm, IPC High Density)
footprint MF06A_M (SOT23, 6-Leads, Body 2.9x1.6mm, Pitch 0.95mm, Lead Span 2.8mm, IPC Low Density)
pins: 1 VA (power), 2 GND (power), 3 VIN (in), 4 SCLK (in), 5 SDATA (out), 6 ~{CS} (in)

## ADC121S101CISD
designator U?
1MSPS, 12-Bit A/D Converter, 7-pin LLP; PartNumber: ADC121S101CISD; Manufacturer: National Semiconductor; PackageTopMarking: XTT*X1C; PowerWise: Y; CompType: ADC IC; Published: 4-Dec-2008; DatasheetVersion: Nov-2005; PackageVersion: revA, Nov-2003; PackageReference: SDB06A; Publisher: Altium Limited; PackageDescription: LLP, Plastic, Dual, 2.2 x 2.5 x 0.8mm Body, 6 Lead, 0.65mm Pitch, No Pullback; Supplier 1: Farnell; Supplier Part Number 1: 1312533; RoHS: N; PinCount: 6; ComponentLink1Description: ADC121S101 Datasheet; ComponentLink1URL: http://www.national.com/ds/AD/ADC121S101.pdf; ComponentLink2Description: ADC121S101 Web Page; ComponentLink2URL: http://www.national.com/pf/AD/ADC121S101.html; ComponentLink3Description: SDB06A Package Page; ComponentLink3URL: http://www.national.com/packaging/folders/sdb06a.html
footprint SDB06A (SON, 6-Leads, Body 2.2x2.5mm, Pitch 0.65mm, NSC Recommended (SC-70 Land))
pins: 1 VA (power), 2 GND (power), 3 VIN (in), 4 SCLK (in), 5 SDATA (out), 6 ~{CS} (in), 7 GND (power)

## ADC121S101CISDX
designator U?
Single Channel, 0.5 to 1 MSPS, 12-Bit A/D Converter, 6-pin LLP; PartNumber: ADC121S101CISDX; Manufacturer: National Semiconductor; PackageTopMarking: XTT*X1C; PowerWise: Y; CompType: ADC IC; Published: 1-Mar-2010; DatasheetVersion: Nov-2005; PackageVersion: revA, Nov-2003; PackageReference: SDB06A; Publisher: Altium Limited; PackageDescription: LLP, Plastic, Dual, 2.2 x 2.5 x 0.8mm Body, 6 Lead, 0.65mm Pitch, No Pullback; RoHS: N; PinCount: 6; ComponentLink1Description: ADC121S101 Datasheet; ComponentLink1URL: http://www.national.com/ds/AD/ADC121S101.pdf; ComponentLink2Description: ADC121S101 Web Page; ComponentLink2URL: http://www.national.com/pf/AD/ADC121S101.html; ComponentLink3Description: SDB06A Package Page; ComponentLink3URL: http://www.national.com/packaging/folders/sdb06a.html
footprint SDB06A (SON, 6-Leads, Body 2.2x2.5mm, Pitch 0.65mm, NSC Recommended (SC-70 Land))
pins: 1 VA (power), 2 GND (power), 3 VIN (in), 4 SCLK (in), 5 SDATA (out), 6 ~{CS} (in), 7 GND (power)

## ADC121S625CIMM
designator U?
12-Bit, 50 kSPS to 200 kSPS, Differential Input, Micro Power Sampling A/D Converter, 8-pin Mini SOIC; PartNumber: ADC121S625CIMM; Manufacturer: National Semiconductor; PackageTopMarking: ZXTT*X0AC; PowerWise: N; CompType: ADC IC; Published: 4-Dec-2008; DatasheetVersion: May-2005; PackageVersion: revF, Apr-2008; PackageReference: MUA08A; Publisher: Altium Limited; PackageDescription: MINI SOIC, .118 x .118 x .034in, 8 Lead, .0256in Pitch; Supplier 1: Farnell; Supplier Part Number 1: 1250039; RoHS: N; PinCount: 8; Code_JEDEC: MO-187-AA; ComponentLink1Description: ADC121S625 Datasheet; ComponentLink1URL: http://www.national.com/ds/AD/ADC121S625.pdf; ComponentLink2Description: ADC121S625 Web Page; ComponentLink2URL: http://www.national.com/pf/AD/ADC121S625.html; ComponentLink3Description: MUA08A Package Page; ComponentLink3URL: http://www.national.com/packaging/folders/mua08a.html
footprint MUA08A_N (TSOP, 8-Leads, Body 3x3mm, Pitch 0.65mm, IPC Medium Density)
footprint MUA08A_L (TSOP, 8-Leads, Body 3x3mm, Pitch 0.65mm, IPC High Density)
footprint MUA08A_M (TSOP, 8-Leads, Body 3x3mm, Pitch 0.65mm, IPC Low Density)
pins: 1 VREF (power), 2 +IN (in), 3 -IN (in), 4 GND (power), 5 ~{CS} (in), 6 DOUT (out), 7 SCLK (in), 8 VA (power)

## ADC121S625CIMM/NOPB
designator U?
12-Bit, 50 kSPS to 200 kSPS, Differential Input, Micro Power Sampling A/D Converter, 8-pin Mini SOIC, Pb-Free; PartNumber: ADC121S625CIMM/NOPB; Manufacturer: National Semiconductor; PackageTopMarking: ZXTT*X0AC; PowerWise: N; CompType: ADC IC; Published: 1-Mar-2010; DatasheetVersion: May-2005; PackageVersion: revF, Apr-2008; PackageReference: MUA08A; Publisher: Altium Limited; PackageDescription: MINI SOIC, .118 x .118 x .034in, 8 Lead, .0256in Pitch; Supplier 1: Digi-Key; Supplier Part Number 1: ADC121S625CIMMTR-ND; Supplier 2: Digi-Key; Supplier Part Number 2: ADC121S625CIMMCT-ND; Supplier 3: Digi-Key; Supplier Part Number 3: ADC121S625CIMMDKR-ND; RoHS: Y; PinCount: 8; Code_JEDEC: MO-187-AA; ComponentLink1Description: ADC121S625 Datasheet; ComponentLink1URL: http://www.national.com/ds/AD/ADC121S625.pdf; ComponentLink2Description: ADC121S625 Web Page; ComponentLink2URL: http://www.national.com/pf/AD/ADC121S625.html; ComponentLink3Description: MUA08A Package Page; ComponentLink3URL: http://www.national.com/packaging/folders/mua08a.html
footprint MUA08A_N (TSOP, 8-Leads, Body 3x3mm, Pitch 0.65mm, IPC Medium Density)
footprint MUA08A_L (TSOP, 8-Leads, Body 3x3mm, Pitch 0.65mm, IPC High Density)
footprint MUA08A_M (TSOP, 8-Leads, Body 3x3mm, Pitch 0.65mm, IPC Low Density)
pins: 1 VREF (power), 2 +IN (in), 3 -IN (in), 4 GND (power), 5 ~{CS} (in), 6 DOUT (out), 7 SCLK (in), 8 VA (power)

## ADC121S625CIMMX
designator U?
12-Bit, 50 kSPS to 200 kSPS, Differential Input, Micro Power Sampling A/D Converter, 8-pin Mini SOIC; PartNumber: ADC121S625CIMMX; Manufacturer: National Semiconductor; PackageTopMarking: ZXTT*X0AC; PowerWise: N; CompType: ADC IC; Published: 1-Mar-2010; DatasheetVersion: May-2005; PackageVersion: revF, Apr-2008; PackageReference: MUA08A; Publisher: Altium Limited; PackageDescription: MINI SOIC, .118 x .118 x .034in, 8 Lead, .0256in Pitch; RoHS: N; PinCount: 8; Code_JEDEC: MO-187-AA; ComponentLink1Description: ADC121S625 Datasheet; ComponentLink1URL: http://www.national.com/ds/AD/ADC121S625.pdf; ComponentLink2Description: ADC121S625 Web Page; ComponentLink2URL: http://www.national.com/pf/AD/ADC121S625.html; ComponentLink3Description: MUA08A Package Page; ComponentLink3URL: http://www.national.com/packaging/folders/mua08a.html
footprint MUA08A_N (TSOP, 8-Leads, Body 3x3mm, Pitch 0.65mm, IPC Medium Density)
footprint MUA08A_L (TSOP, 8-Leads, Body 3x3mm, Pitch 0.65mm, IPC High Density)
footprint MUA08A_M (TSOP, 8-Leads, Body 3x3mm, Pitch 0.65mm, IPC Low Density)
pins: 1 VREF (power), 2 +IN (in), 3 -IN (in), 4 GND (power), 5 ~{CS} (in), 6 DOUT (out), 7 SCLK (in), 8 VA (power)

## ADC121S655CIMM
designator U?
12-Bit, 200 kSPS to 500 kSPS, Differential Input, Micro Power A/D Converter, 8-pin Mini SOIC; PartNumber: ADC121S655CIMM; Manufacturer: National Semiconductor; PackageTopMarking: ZXTT*X2AC; PowerWise: N; CompType: ADC IC; Published: 4-Dec-2008; DatasheetVersion: Apr-2007; PackageVersion: revF, Apr-2008; PackageReference: MUA08A; Publisher: Altium Limited; PackageDescription: MINI SOIC, .118 x .118 x .034in, 8 Lead, .0256in Pitch; Supplier 1: Farnell; Supplier Part Number 1: 1370035; RoHS: Y; PinCount: 8; Code_JEDEC: MO-187-AA; ComponentLink1Description: ADC121S655 Datasheet; ComponentLink1URL: http://www.national.com/ds/AD/ADC121S655.pdf; ComponentLink2Description: ADC121S655 Web Page; ComponentLink2URL: http://www.national.com/pf/AD/ADC121S655.html; ComponentLink3Description: MUA08A Package Page; ComponentLink3URL: http://www.national.com/packaging/folders/mua08a.html
footprint MUA08A_N (TSOP, 8-Leads, Body 3x3mm, Pitch 0.65mm, IPC Medium Density)
footprint MUA08A_L (TSOP, 8-Leads, Body 3x3mm, Pitch 0.65mm, IPC High Density)
footprint MUA08A_M (TSOP, 8-Leads, Body 3x3mm, Pitch 0.65mm, IPC Low Density)
pins: 1 VREF (power), 2 +IN (in), 3 -IN (in), 4 GND (power), 5 ~{CS} (in), 6 DOUT (out), 7 SCLK (in), 8 VA (power)

## ADC121S655CIMM/NOPB
designator U?
12-Bit, 200 kSPS to 500 kSPS, Differential Input, Micro Power A/D Converter, 8-pin Mini SOIC, Pb-Free; PartNumber: ADC121S655CIMM/NOPB; Manufacturer: National Semiconductor; PackageTopMarking: ZXTT*X2AC; PowerWise: N; CompType: ADC IC; Published: 1-Mar-2010; DatasheetVersion: Apr-2007; PackageVersion: revF, Apr-2008; PackageReference: MUA08A; Publisher: Altium Limited; PackageDescription: MINI SOIC, .118 x .118 x .034in, 8 Lead, .0256in Pitch; Supplier 1: Digi-Key; Supplier Part Number 1: ADC121S655CIMMTR-ND; Supplier 2: Digi-Key; Supplier Part Number 2: ADC121S655CIMMCT-ND; Supplier 3: Digi-Key; Supplier Part Number 3: ADC121S655CIMMDKR-ND; RoHS: Y; PinCount: 8; Code_JEDEC: MO-187-AA; ComponentLink1Description: ADC121S655 Datasheet; ComponentLink1URL: http://www.national.com/ds/AD/ADC121S655.pdf; ComponentLink2Description: ADC121S655 Web Page; ComponentLink2URL: http://www.national.com/pf/AD/ADC121S655.html; ComponentLink3Description: MUA08A Package Page; ComponentLink3URL: http://www.national.com/packaging/folders/mua08a.html
footprint MUA08A_N (TSOP, 8-Leads, Body 3x3mm, Pitch 0.65mm, IPC Medium Density)
footprint MUA08A_L (TSOP, 8-Leads, Body 3x3mm, Pitch 0.65mm, IPC High Density)
footprint MUA08A_M (TSOP, 8-Leads, Body 3x3mm, Pitch 0.65mm, IPC Low Density)
pins: 1 VREF (power), 2 +IN (in), 3 -IN (in), 4 GND (power), 5 ~{CS} (in), 6 DOUT (out), 7 SCLK (in), 8 VA (power)

## ADC121S655CIMMX/NOPB
designator U?
12-Bit, 200 kSPS to 500 kSPS, Differential Input, Micro Power A/D Converter, 8-pin Mini SOIC, Pb-Free; PartNumber: ADC121S655CIMMX/NOPB; Manufacturer: National Semiconductor; PackageTopMarking: ZXTT*X2AC; PowerWise: N; CompType: ADC IC; Published: 1-Mar-2010; DatasheetVersion: Apr-2007; PackageVersion: revF, Apr-2008; PackageReference: MUA08A; Publisher: Altium Limited; PackageDescription: MINI SOIC, .118 x .118 x .034in, 8 Lead, .0256in Pitch; Supplier 1: Digi-Key; Supplier Part Number 1: ADC121S655CIMMX-ND; RoHS: Y; PinCount: 8; Code_JEDEC: MO-187-AA; ComponentLink1Description: ADC121S655 Datasheet; ComponentLink1URL: http://www.national.com/ds/AD/ADC121S655.pdf; ComponentLink2Description: ADC121S655 Web Page; ComponentLink2URL: http://www.national.com/pf/AD/ADC121S655.html; ComponentLink3Description: MUA08A Package Page; ComponentLink3URL: http://www.national.com/packaging/folders/mua08a.html
footprint MUA08A_N (TSOP, 8-Leads, Body 3x3mm, Pitch 0.65mm, IPC Medium Density)
footprint MUA08A_L (TSOP, 8-Leads, Body 3x3mm, Pitch 0.65mm, IPC High Density)
footprint MUA08A_M (TSOP, 8-Leads, Body 3x3mm, Pitch 0.65mm, IPC Low Density)
pins: 1 VREF (power), 2 +IN (in), 3 -IN (in), 4 GND (power), 5 ~{CS} (in), 6 DOUT (out), 7 SCLK (in), 8 VA (power)

## ADC121S705CIMM
designator U?
12-Bit, 500 kSPS to 1 MSPS, Differential Input, Micro Power A/D Converter, 8-pin Mini SOIC; PartNumber: ADC121S705CIMM; Manufacturer: National Semiconductor; PackageTopMarking: ZXTT*X1AC; PowerWise: N; CompType: ADC IC; Published: 4-Dec-2008; DatasheetVersion: Dec-2006; PackageVersion: revF, Apr-2008; PackageReference: MUA08A; Publisher: Altium Limited; PackageDescription: MINI SOIC, .118 x .118 x .034in, 8 Lead, .0256in Pitch; Supplier 1: Farnell; Supplier Part Number 1: 1320971; RoHS: N; PinCount: 8; Code_JEDEC: MO-187-AA; ComponentLink1Description: ADC121S705 Datasheet; ComponentLink1URL: http://www.national.com/ds/AD/ADC121S705.pdf; ComponentLink2Description: ADC121S705 Web Page; ComponentLink2URL: http://www.national.com/pf/AD/ADC121S705.html; ComponentLink3Description: MUA08A Package Page; ComponentLink3URL: http://www.national.com/packaging/folders/mua08a.html
footprint MUA08A_N (TSOP, 8-Leads, Body 3x3mm, Pitch 0.65mm, IPC Medium Density)
footprint MUA08A_L (TSOP, 8-Leads, Body 3x3mm, Pitch 0.65mm, IPC High Density)
footprint MUA08A_M (TSOP, 8-Leads, Body 3x3mm, Pitch 0.65mm, IPC Low Density)
pins: 1 VREF (power), 2 +IN (in), 3 -IN (in), 4 GND (power), 5 ~{CS} (in), 6 DOUT (out), 7 SCLK (in), 8 VA (power)

## ADC121S705CIMM/NOPB
designator U?
12-Bit, 500 kSPS to 1 MSPS, Differential Input, Micro Power A/D Converter, 8-pin Mini SOIC, Pb-Free; PartNumber: ADC121S705CIMM/NOPB; Manufacturer: National Semiconductor; PackageTopMarking: ZXTT*X1AC; PowerWise: N; CompType: ADC IC; Published: 1-Mar-2010; DatasheetVersion: Dec-2006; PackageVersion: revF, Apr-2008; PackageReference: MUA08A; Publisher: Altium Limited; PackageDescription: MINI SOIC, .118 x .118 x .034in, 8 Lead, .0256in Pitch; Supplier 1: Digi-Key; Supplier Part Number 1: ADC121S705CIMMTR-ND; Supplier 2: Digi-Key; Supplier Part Number 2: ADC121S705CIMMCT-ND; RoHS: Y; PinCount: 8; Code_JEDEC: MO-187-AA; ComponentLink1Description: ADC121S705 Datasheet; ComponentLink1URL: http://www.national.com/ds/AD/ADC121S705.pdf; ComponentLink2Description: ADC121S705 Web Page; ComponentLink2URL: http://www.national.com/pf/AD/ADC121S705.html; ComponentLink3Description: MUA08A Package Page; ComponentLink3URL: http://www.national.com/packaging/folders/mua08a.html
footprint MUA08A_N (TSOP, 8-Leads, Body 3x3mm, Pitch 0.65mm, IPC Medium Density)
footprint MUA08A_L (TSOP, 8-Leads, Body 3x3mm, Pitch 0.65mm, IPC High Density)
footprint MUA08A_M (TSOP, 8-Leads, Body 3x3mm, Pitch 0.65mm, IPC Low Density)
pins: 1 VREF (power), 2 +IN (in), 3 -IN (in), 4 GND (power), 5 ~{CS} (in), 6 DOUT (out), 7 SCLK (in), 8 VA (power)

## ADC121S705CIMMX
designator U?
12-Bit, 500 kSPS to 1 MSPS, Differential Input, Micro Power A/D Converter, 8-pin Mini SOIC; PartNumber: ADC121S705CIMMX; Manufacturer: National Semiconductor; PackageTopMarking: ZXTT*X1AC; PowerWise: N; CompType: ADC IC; Published: 1-Mar-2010; DatasheetVersion: Dec-2006; PackageVersion: revF, Apr-2008; PackageReference: MUA08A; Publisher: Altium Limited; PackageDescription: MINI SOIC, .118 x .118 x .034in, 8 Lead, .0256in Pitch; RoHS: N; PinCount: 8; Code_JEDEC: MO-187-AA; ComponentLink1Description: ADC121S705 Datasheet; ComponentLink1URL: http://www.national.com/ds/AD/ADC121S705.pdf; ComponentLink2Description: ADC121S705 Web Page; ComponentLink2URL: http://www.national.com/pf/AD/ADC121S705.html; ComponentLink3Description: MUA08A Package Page; ComponentLink3URL: http://www.national.com/packaging/folders/mua08a.html
footprint MUA08A_N (TSOP, 8-Leads, Body 3x3mm, Pitch 0.65mm, IPC Medium Density)
footprint MUA08A_L (TSOP, 8-Leads, Body 3x3mm, Pitch 0.65mm, IPC High Density)
footprint MUA08A_M (TSOP, 8-Leads, Body 3x3mm, Pitch 0.65mm, IPC Low Density)
pins: 1 VREF (power), 2 +IN (in), 3 -IN (in), 4 GND (power), 5 ~{CS} (in), 6 DOUT (out), 7 SCLK (in), 8 VA (power)

## ADC121S705CIMMX/NOPB
designator U?
12-Bit, 500 kSPS to 1 MSPS, Differential Input, Micro Power A/D Converter, 8-pin Mini SOIC, Pb-Free; PartNumber: ADC121S705CIMMX/NOPB; Manufacturer: National Semiconductor; PackageTopMarking: ZXTT*X1AC; PowerWise: N; CompType: ADC IC; Published: 1-Mar-2010; DatasheetVersion: Dec-2006; PackageVersion: revF, Apr-2008; PackageReference: MUA08A; Publisher: Altium Limited; PackageDescription: MINI SOIC, .118 x .118 x .034in, 8 Lead, .0256in Pitch; Supplier 1: Digi-Key; Supplier Part Number 1: ADC121S705CIMMX-ND; RoHS: Y; PinCount: 8; Code_JEDEC: MO-187-AA; ComponentLink1Description: ADC121S705 Datasheet; ComponentLink1URL: http://www.national.com/ds/AD/ADC121S705.pdf; ComponentLink2Description: ADC121S705 Web Page; ComponentLink2URL: http://www.national.com/pf/AD/ADC121S705.html; ComponentLink3Description: MUA08A Package Page; ComponentLink3URL: http://www.national.com/packaging/folders/mua08a.html
footprint MUA08A_N (TSOP, 8-Leads, Body 3x3mm, Pitch 0.65mm, IPC Medium Density)
footprint MUA08A_L (TSOP, 8-Leads, Body 3x3mm, Pitch 0.65mm, IPC High Density)
footprint MUA08A_M (TSOP, 8-Leads, Body 3x3mm, Pitch 0.65mm, IPC Low Density)
pins: 1 VREF (power), 2 +IN (in), 3 -IN (in), 4 GND (power), 5 ~{CS} (in), 6 DOUT (out), 7 SCLK (in), 8 VA (power)

## ADC122S021CIMM
designator U?
2 Channel, 200 kSPS 12-Bit A/D Converter, 8-pin Mini SOIC; PartNumber: ADC122S021CIMM; Manufacturer: National Semiconductor; PackageTopMarking: ZXTT*X18C; PowerWise: Y; CompType: ADC IC; Published: 4-Dec-2008; DatasheetVersion: Jan-2010; PackageVersion: revF, Apr-2008; PackageReference: MUA08A; Publisher: Altium Limited; PackageDescription: MINI SOIC, .118 x .118 x .034in, 8 Lead, .0256in Pitch; Supplier 1: Farnell; Supplier Part Number 1: 1007994; RoHS: N; PinCount: 8; Code_JEDEC: MO-187-AA; ComponentLink1Description: ADC122S021 Datasheet; ComponentLink1URL: http://www.national.com/ds/AD/ADC122S021.pdf; ComponentLink2Description: ADC122S021 Web Page; ComponentLink2URL: http://www.national.com/pf/AD/ADC122S021.html; ComponentLink3Description: MUA08A Package Page; ComponentLink3URL: http://www.national.com/packaging/folders/mua08a.html
footprint MUA08A_N (TSOP, 8-Leads, Body 3x3mm, Pitch 0.65mm, IPC Medium Density)
footprint MUA08A_L (TSOP, 8-Leads, Body 3x3mm, Pitch 0.65mm, IPC High Density)
footprint MUA08A_M (TSOP, 8-Leads, Body 3x3mm, Pitch 0.65mm, IPC Low Density)
pins: 1 ~{CS} (in), 2 VA (power), 3 GND (power), 4 IN2 (in), 5 IN1 (in), 6 DIN (in), 7 DOUT (out), 8 SCLK (in)

## ADC122S021CIMM/NOPB
designator U?
2 Channel, 50 kSPS to 200 kSPS 12-Bit A/D Converter, 8-pin Mini SOIC, Pb-Free; PartNumber: ADC122S021CIMM/NOPB; Manufacturer: National Semiconductor; PackageTopMarking: ZXTT*X18C; PowerWise: Y; CompType: ADC IC; Published: 1-Mar-2010; DatasheetVersion: Jan-2010; PackageVersion: revF, Apr-2008; PackageReference: MUA08A; Publisher: Altium Limited; PackageDescription: MINI SOIC, .118 x .118 x .034in, 8 Lead, .0256in Pitch; Supplier 1: Digi-Key; Supplier Part Number 1: ADC122S021CIMMTR-ND; Supplier 2: Digi-Key; Supplier Part Number 2: ADC122S021CIMMCT-ND; Supplier 3: Digi-Key; Supplier Part Number 3: ADC122S021CIMMDKR-ND; Supplier 4: Farnell; Supplier Part Number 4: 1559298; RoHS: Y; PinCount: 8; Code_JEDEC: MO-187-AA; ComponentLink1Description: ADC122S021 Datasheet; ComponentLink1URL: http://www.national.com/ds/AD/ADC122S021.pdf; ComponentLink2Description: ADC122S021 Web Page; ComponentLink2URL: http://www.national.com/pf/AD/ADC122S021.html; ComponentLink3Description: MUA08A Package Page; ComponentLink3URL: http://www.national.com/packaging/folders/mua08a.html
footprint MUA08A_N (TSOP, 8-Leads, Body 3x3mm, Pitch 0.65mm, IPC Medium Density)
footprint MUA08A_L (TSOP, 8-Leads, Body 3x3mm, Pitch 0.65mm, IPC High Density)
footprint MUA08A_M (TSOP, 8-Leads, Body 3x3mm, Pitch 0.65mm, IPC Low Density)
pins: 1 ~{CS} (in), 2 VA (power), 3 GND (power), 4 IN2 (in), 5 IN1 (in), 6 DIN (in), 7 DOUT (out), 8 SCLK (in)

## ADC122S021CIMMX
designator U?
2 Channel, 50 kSPS to 200 kSPS 12-Bit A/D Converter, 8-pin Mini SOIC; PartNumber: ADC122S021CIMMX; Manufacturer: National Semiconductor; PackageTopMarking: ZXTT*X18C; PowerWise: Y; CompType: ADC IC; Published: 1-Mar-2010; DatasheetVersion: Jan-2010; PackageVersion: revF, Apr-2008; PackageReference: MUA08A; Publisher: Altium Limited; PackageDescription: MINI SOIC, .118 x .118 x .034in, 8 Lead, .0256in Pitch; RoHS: N; PinCount: 8; Code_JEDEC: MO-187-AA; ComponentLink1Description: ADC122S021 Datasheet; ComponentLink1URL: http://www.national.com/ds/AD/ADC122S021.pdf; ComponentLink2Description: ADC122S021 Web Page; ComponentLink2URL: http://www.national.com/pf/AD/ADC122S021.html; ComponentLink3Description: MUA08A Package Page; ComponentLink3URL: http://www.national.com/packaging/folders/mua08a.html
footprint MUA08A_N (TSOP, 8-Leads, Body 3x3mm, Pitch 0.65mm, IPC Medium Density)
footprint MUA08A_L (TSOP, 8-Leads, Body 3x3mm, Pitch 0.65mm, IPC High Density)
footprint MUA08A_M (TSOP, 8-Leads, Body 3x3mm, Pitch 0.65mm, IPC Low Density)
pins: 1 ~{CS} (in), 2 VA (power), 3 GND (power), 4 IN2 (in), 5 IN1 (in), 6 DIN (in), 7 DOUT (out), 8 SCLK (in)

## ADC122S021CIMMX/NOPB
designator U?
2 Channel, 50 kSPS to 200 kSPS 12-Bit A/D Converter, 8-pin Mini SOIC, Pb-Free; PartNumber: ADC122S021CIMMX/NOPB; Manufacturer: National Semiconductor; PackageTopMarking: ZXTT*X18C; PowerWise: Y; CompType: ADC IC; Published: 1-Mar-2010; DatasheetVersion: Jan-2010; PackageVersion: revF, Apr-2008; PackageReference: MUA08A; Publisher: Altium Limited; PackageDescription: MINI SOIC, .118 x .118 x .034in, 8 Lead, .0256in Pitch; Supplier 1: Digi-Key; Supplier Part Number 1: ADC122S021CIMMX-ND; RoHS: Y; PinCount: 8; Code_JEDEC: MO-187-AA; ComponentLink1Description: ADC122S021 Datasheet; ComponentLink1URL: http://www.national.com/ds/AD/ADC122S021.pdf; ComponentLink2Description: ADC122S021 Web Page; ComponentLink2URL: http://www.national.com/pf/AD/ADC122S021.html; ComponentLink3Description: MUA08A Package Page; ComponentLink3URL: http://www.national.com/packaging/folders/mua08a.html
footprint MUA08A_N (TSOP, 8-Leads, Body 3x3mm, Pitch 0.65mm, IPC Medium Density)
footprint MUA08A_L (TSOP, 8-Leads, Body 3x3mm, Pitch 0.65mm, IPC High Density)
footprint MUA08A_M (TSOP, 8-Leads, Body 3x3mm, Pitch 0.65mm, IPC Low Density)
pins: 1 ~{CS} (in), 2 VA (power), 3 GND (power), 4 IN2 (in), 5 IN1 (in), 6 DIN (in), 7 DOUT (out), 8 SCLK (in)